# EAGLE library part LT3086 (library custom)
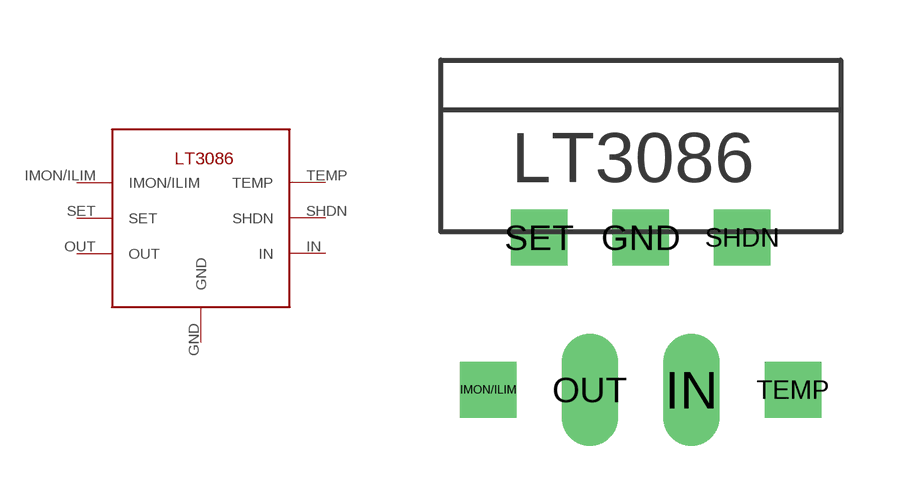
[diagram p1: symbol with the pads of LT3086-T7; footprint LT3086-T7]

Designator prefix -

## LT3086  [LT3086-T7]
GND  GND
IMON/ILIM  IMON/ILIM
IN  IN
OUT  OUT
SET  SET
SHDN  SHDN
TEMP  TEMP

## Footprint LT3086-T7 (pad centres in mm)
drill 0.9 square: GND 0,0; IMON/ILIM -3.81,-3.81; SET -2.54,0; SHDN 2.54,0; TEMP 3.81,-3.81
drill 0.9 long: IN 1.27,-3.81; OUT -1.27,-3.81